# EAGLE library part SDPROTO (library Jeff)
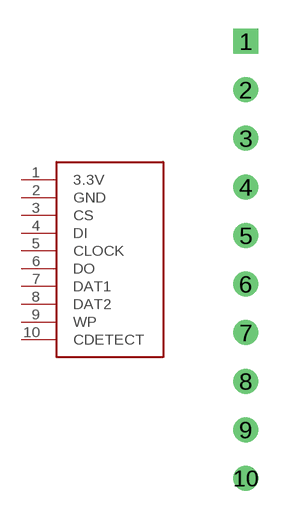
[diagram p4: symbol with the pads of SDPROTO; footprint SDPROTO]

Designator prefix -

## SDPROTO  [SDPROTO]
1  3.3V
2  GND
3  CS
4  DI
5  CLOCK
6  DO
7  DAT1
8  DAT2
9  WP
10  CDETECT

## Footprint SDPROTO (pad centres in mm)
drill 0.8 square: 1 0,10.16
drill 0.8: 2 0,7.62; 3 0,5.08; 4 0,2.54; 5 0,0; 6 0,-2.54; 7 0,-5.08; 8 0,-7.62; 9 0,-10.16; 10 0,-12.7